# Altium footprint library CSD17301.PcbLib: 1 footprints
Each footprint in its own frame and in the unit in brackets; x right, y up, seen from the top. Pads: shape width x height; smd on the part's side, far side on the other; paste and mask are expansions set on the pad; w line width, h text height; cw(c..) or ccw(c..) is an arc to the next point about the centre after c.
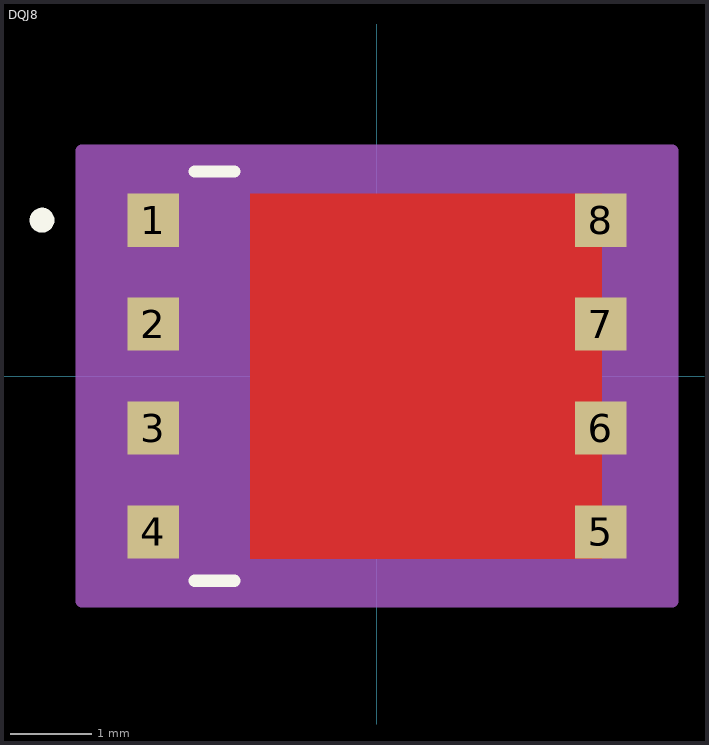
[diagram p0: the footprint, top view; thin cyan lines are the x and y axes]

## DQJ8 [mm]
pads (8):
  rect 0.63x0.65 smd paste-0.1: 1(-2.735,1.905) 2(-2.735,0.635) 3(-2.735,-0.635) 4(-2.735,-1.905) 5(2.735,-1.905) 6(2.735,-0.635) 7(2.735,0.635) 8(2.735,1.905)
Top Layer:
  region: 2.745,0 2.745,-2.23 -1.545,-2.23 -1.545,0
  region: 2.745,0 2.745,2.23 -1.545,2.23 -1.545,0
Top Overlay:
  circle w0.152: c-4.091,1.905 r0.076
  lines w0.152: -2.226,-2.5 -1.74,-2.5 ; -2.226,2.5 -1.74,2.5
Top Paste:
  region: -0.18,-1.88 -0.18,-0.31 -1.415,-0.31 -1.415,-1.88
  region: -0.18,1.88 -0.18,0.31 -1.415,0.31 -1.415,1.88
  region: 0.32,1.88 0.32,0.31 1.905,0.31 1.905,1.88
  region: 0.32,-1.88 0.32,-0.31 1.905,-0.31 1.905,-1.88
Top Solder:
  region: 2.745,0 2.745,-2.23 -1.545,-2.23 -1.545,0
  region: 2.745,0 2.745,2.23 -1.545,2.23 -1.545,0
  region: 3.12,2.3 2.35,2.3 2.35,1.51 3.12,1.51
  region: 3.12,1.03 2.35,1.03 2.35,0.24 3.12,0.24
  region: 3.12,-0.24 2.35,-0.24 2.35,-1.03 3.12,-1.03
  region: 3.12,-1.51 2.35,-1.51 2.35,-2.3 3.12,-2.3
  region: -2.35,-1.51 -3.12,-1.51 -3.12,-2.3 -2.35,-2.3
  region: -2.35,-0.24 -3.12,-0.24 -3.12,-1.03 -2.35,-1.03
  region: -2.35,1.03 -3.12,1.03 -3.12,0.24 -2.35,0.24
  region: -2.35,2.3 -3.12,2.3 -3.12,1.51 -2.35,1.51
Mechanical 13:
  circle w0: c-4.091,1.905 r0.076
  lines w0: -0.305,2.5 ccw(c0,2.5) 0.305,2.5
Mechanical 15:
  region: 3.609,-2.754 -3.609,-2.754 -3.609,2.754 3.609,2.754
  lines w0.152: -3.609,-2.754 3.609,-2.754 3.609,2.754 -3.609,2.754 -3.609,-2.754
3D body: height 1.15, standoff 0, extent -3.13,-2.45 3.13,2.45